# Altium footprint library fszhang.PcbLib: 279 footprints (part 7 of 18)
Each footprint in its own frame and in the unit in brackets; x right, y up, seen from the top. Pads: shape width x height; smd on the part's side, far side on the other; paste and mask are expansions set on the pad; w line width, h text height; cw(c..) or ccw(c..) is an arc to the next point about the centre after c.
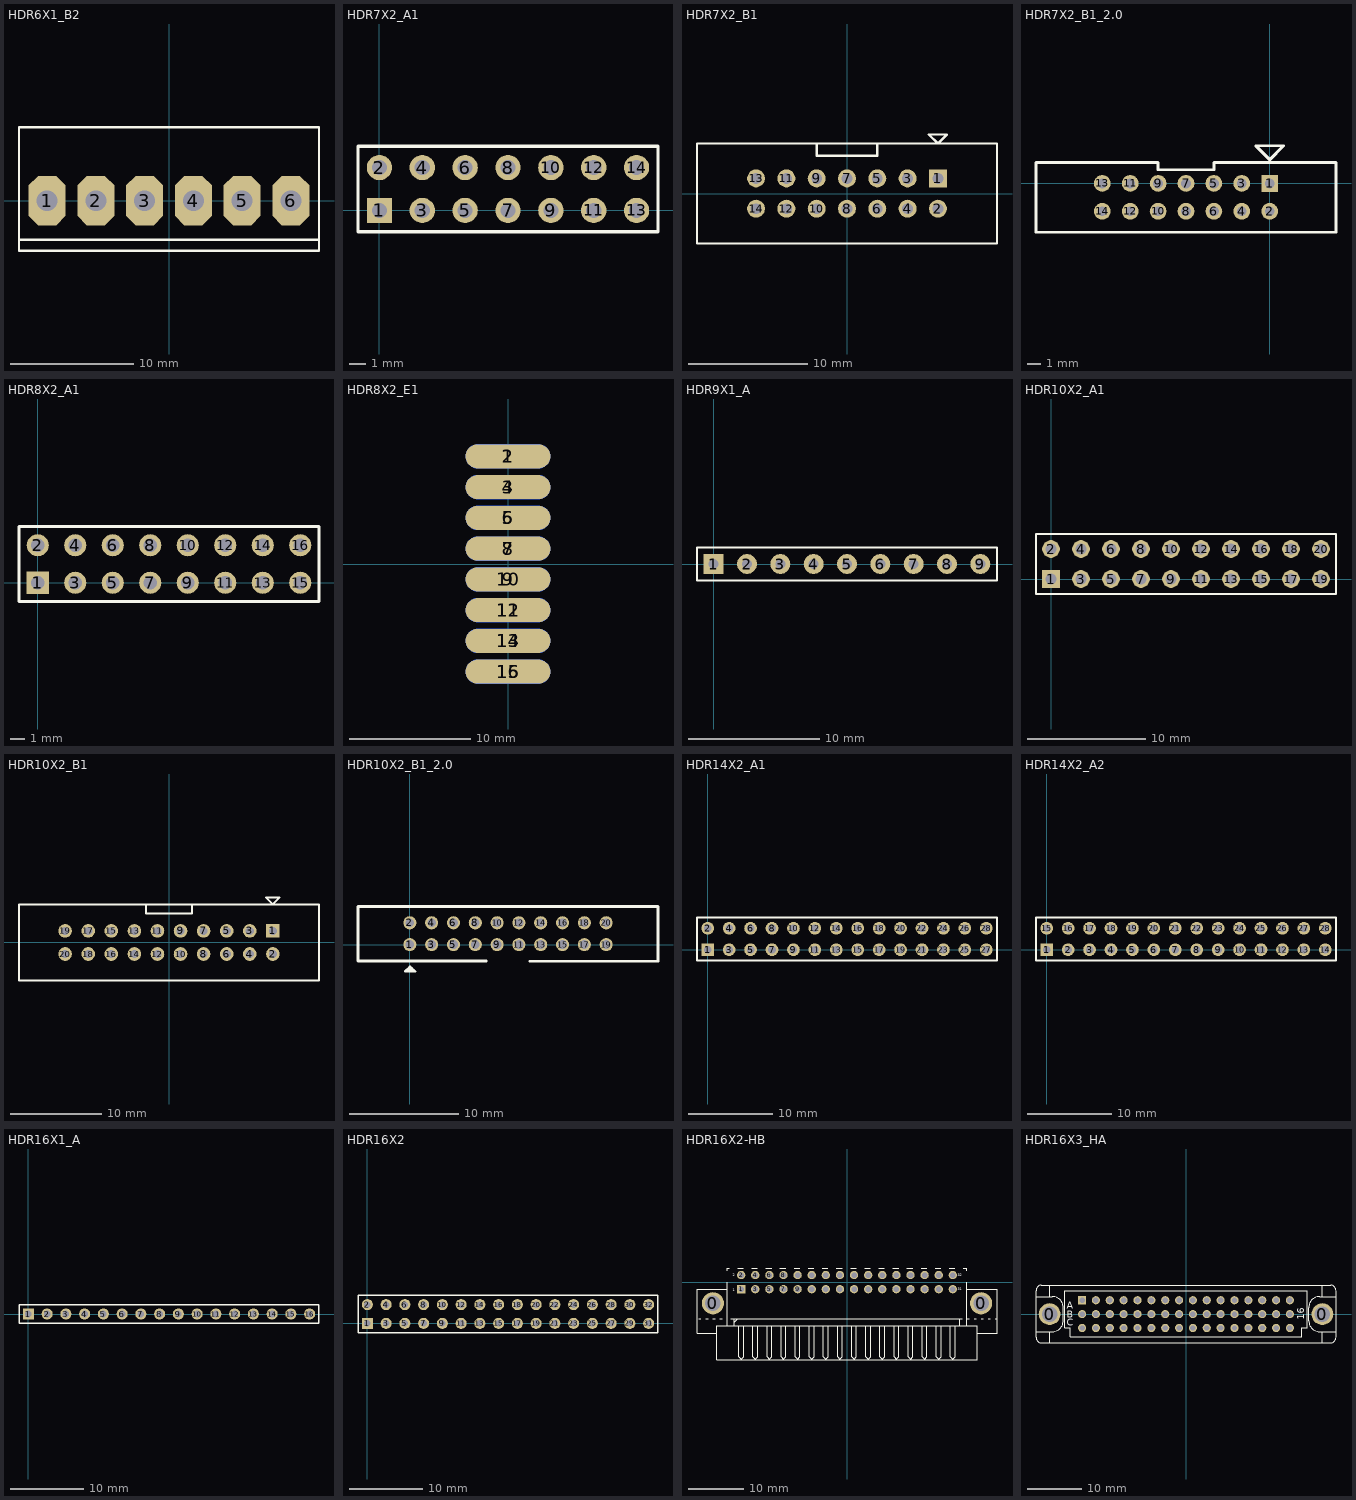
[diagram p6: the footprints below, top view; thin cyan lines are the x and y axes]

## HDR6X1_B2 [mm] "Connector; Header; 3 Position"
height 1.5
pads (6):
  oct 3x4 hole 1.7: 1(-9.906,0) 2(-5.944,0) 3(-1.981,0) 4(1.981,0) 5(5.944,0) 6(9.906,0)
Top Overlay:
  lines w0.2: -12.192,-3.175 12.192,-3.175 ; -2.54,-4.064 2.54,-4.064 ; -12.192,-4.064 12.192,-4.064 12.192,5.969 -12.192,5.969 -12.192,-4.064

## HDR7X2_A1 [mm] "Connector; Header; 7x2 Position"
height 1.75
pads (14):
  rect 1.5x1.5 hole 0.9: 1(0,0)
  round 1.5 hole 0.9: 2(0,2.54) 3(2.54,0) 4(2.54,2.54) 5(5.08,0) 6(5.08,2.54) 7(7.62,0) 8(7.62,2.54) 9(10.16,0) 10(10.16,2.54) 11(12.7,0) 12(12.7,2.54) 13(15.24,0) 14(15.24,2.54)
Top Overlay:
  lines w0.2: -1.27,-1.27 16.51,-1.27 16.51,3.81 -1.27,3.81 -1.27,-1.27

## HDR7X2_B1 [mm] "Connector"
height 2.65
pads (14):
  rect 1.5x1.5 hole 0.9: 1(7.62,1.27)
  round 1.5 hole 0.9: 2(7.62,-1.27) 3(5.08,1.27) 4(5.08,-1.27) 5(2.54,1.27) 6(2.54,-1.27) 7(0,1.27) 8(0,-1.27) 9(-2.54,1.27) 10(-2.54,-1.27) 11(-5.08,1.27) 12(-5.08,-1.27) 13(-7.62,1.27) 14(-7.62,-1.27)
Top Overlay:
  lines w0.2: -2.54,4.191 -2.54,3.175 2.54,3.175 2.54,4.191 ; -12.573,-4.191 -12.573,4.191 12.573,4.191 12.573,-4.191 -12.573,-4.191 ; 6.858,4.953 8.255,4.953 8.382,4.953 7.62,4.191 6.858,4.953

## HDR7X2_B1_2.0 [mm]
pads (14):
  rect 1.2x1.2 hole 0.7: 1(0,0)
  round 1.2 hole 0.7: 2(0,-2) 3(-2,0) 4(-2,-2) 5(-4,0) 6(-4,-2) 7(-6,0) 8(-6,-2) 9(-8,0) 10(-8,-2) 11(-10,0) 12(-10,-2) 13(-12,0) 14(-12,-2)
Top Overlay:
  lines w0.2: -16.75,-3.5 -16.75,1.5 -8,1.5 -8,0.975 -4,0.975 -4,1.5 4.75,1.5 4.75,-3.5 -16.75,-3.5 ; -1,2.7 0,1.7 1,2.7 -1,2.7

## HDR8X2_A1 [mm] "Connector; Header; 8x2 Position"
pads (16):
  rect 1.5x1.5 hole 0.9: 1(0,0)
  round 1.5 hole 0.9: 2(0,2.54) 3(2.54,0) 4(2.54,2.54) 5(5.08,0) 6(5.08,2.54) 7(7.62,0) 8(7.62,2.54) 9(10.16,0) 10(10.16,2.54) 11(12.7,0) 12(12.7,2.54) 13(15.24,0) 14(15.24,2.54) 15(17.78,0) 16(17.78,2.54)
Top Overlay:
  lines w0.2: -1.27,-1.27 19.05,-1.27 19.05,3.81 -1.27,3.81 -1.27,-1.27

## HDR8X2_E1 [mm]
pads (16):
  oval 7x2 smd: 1(0,8.89) 3(0,6.35) 5(0,3.81) 7(0,1.27) 9(0,-1.27) 11(0,-3.81) 13(0,-6.35) 15(0,-8.89)
  oval 7x2 smd far side: 2(0,8.89) 4(0,6.35) 6(0,3.81) 8(0,1.27) 10(0,-1.27) 12(0,-3.81) 14(0,-6.35) 16(0,-8.89)

## HDR9X1_A [mil] "2.54mm"
height 196.85
pads (9):
  rect 60x60 hole 30: 1(0,0)
  round 60 hole 30: 2(100,0) 3(200,0) 4(300,0) 5(400,0) 6(500,0) 7(600,0) 8(700,0) 9(800,0)
Top Overlay:
  lines w5.91: -50,-50 850,-50 850,50 -50,50 -50,-50

## HDR10X2_A1 [mm] "Connector; Header; 10x2 Position"
height 1.75
pads (20):
  rect 1.5x1.5 hole 0.9: 1(0,0)
  round 1.5 hole 0.9: 2(0,2.54) 3(2.54,0) 4(2.54,2.54) 5(5.08,0) 6(5.08,2.54) 7(7.62,0) 8(7.62,2.54) 9(10.16,0) 10(10.16,2.54) 11(12.7,0) 12(12.7,2.54) 13(15.24,0) 14(15.24,2.54) 15(17.78,0) 16(17.78,2.54) 17(20.32,0) 18(20.32,2.54) 19(22.86,0) 20(22.86,2.54)
Top Overlay:
  lines w0.2: -1.27,-1.27 -1.27,3.81 0.635,3.81 24.13,3.81 24.13,-1.27 0.635,-1.27 -1.27,-1.27

## HDR10X2_B1 [mm]
height 7
pads (20):
  rect 1.5x1.5 hole 0.9: 1(11.43,1.27)
  round 1.5 hole 0.9: 2(11.43,-1.27) 3(8.89,1.27) 4(8.89,-1.27) 5(6.35,1.27) 6(6.35,-1.27) 7(3.81,1.27) 8(3.81,-1.27) 9(1.27,1.27) 10(1.27,-1.27) 11(-1.27,1.27) 12(-1.27,-1.27) 13(-3.81,1.27) 14(-3.81,-1.27) 15(-6.35,1.27) 16(-6.35,-1.27) 17(-8.89,1.27) 18(-8.89,-1.27) 19(-11.43,1.27) 20(-11.43,-1.27)
Top Overlay:
  lines w0.2: -2.54,4.191 -2.54,3.175 2.54,3.175 2.54,4.191 ; -16.51,-4.191 -16.51,4.191 16.51,4.191 16.51,-4.191 -16.51,-4.191 ; 10.668,4.953 11.43,4.191 12.192,4.953 10.668,4.953

## HDR10X2_B1_2.0 [mm]
pads (20):
  round 1.2 hole 0.8: 1(-0.003,-0.008) 2(-0.003,1.992) 3(1.997,-0.008) 4(1.997,1.992) 5(3.997,-0.008) 6(3.997,1.992) 7(5.997,-0.008) 8(5.997,1.992) 9(7.997,-0.008) 10(7.997,1.992) 11(9.997,-0.008) 12(9.997,1.992) 13(11.997,-0.008) 14(11.997,1.992) 15(13.997,-0.008) 16(13.997,1.992) 17(15.997,-0.008) 18(15.997,1.992) 19(17.997,-0.008) 20(17.997,1.992)
Top Overlay:
  lines w0.2: 0.308,-2.294 -0.238,-2.294 -0.252,-2.281 0.103,-2.281 0.199,-2.185 0.199,-2.256 -0.028,-2.483 -0.028,-2.058 -0.003,-2.033 ; -0.003,-2.033 0.047,-2.033 0.497,-2.483 0.297,-2.483 -0.453,-2.483 -0.003,-2.033
  lines w0.254: 6.997,-1.508 -4.753,-1.508 -4.753,3.492 22.747,3.492 22.747,-1.508 ; 10.997,-1.533 22.747,-1.533

## HDR14X2_A1 [mm]
height 7
pads (28):
  rect 1.5x1.5 hole 0.9: 1(0,0)
  round 1.5 hole 0.9: 2(0,2.54) 3(2.54,0) 4(2.54,2.54) 5(5.08,0) 6(5.08,2.54) 7(7.62,0) 8(7.62,2.54) 9(10.16,0) 10(10.16,2.54) 11(12.7,0) 12(12.7,2.54) 13(15.24,0) 14(15.24,2.54) 15(17.78,0) 16(17.78,2.54) 17(20.32,0) 18(20.32,2.54) 19(22.86,0) 20(22.86,2.54) 21(25.4,0) 22(25.4,2.54) 23(27.94,0) 24(27.94,2.54) 25(30.48,0) 26(30.48,2.54) 27(33.02,0) 28(33.02,2.54)
Top Overlay:
  lines w0.2: -1.27,-1.27 34.29,-1.27 34.29,3.81 -1.27,3.81 -1.27,-1.27

## HDR14X2_A2 [mm]
height 7
pads (28):
  rect 1.5x1.5 hole 0.9: 1(0,0)
  round 1.5 hole 0.9: 2(2.54,0) 3(5.08,0) 4(7.62,0) 5(10.16,0) 6(12.7,0) 7(15.24,0) 8(17.78,0) 9(20.32,0) 10(22.86,0) 11(25.4,0) 12(27.94,0) 13(30.48,0) 14(33.02,0) 15(0,2.54) 16(2.54,2.54) 17(5.08,2.54) 18(7.62,2.54) 19(10.16,2.54) 20(12.7,2.54) 21(15.24,2.54) 22(17.78,2.54) 23(20.32,2.54) 24(22.86,2.54) 25(25.4,2.54) 26(27.94,2.54) 27(30.48,2.54) 28(33.02,2.54)
Top Overlay:
  lines w0.2: -1.27,-1.27 34.29,-1.27 34.29,3.81 -1.27,3.81 -1.27,-1.27

## HDR16X1_A [mm] "Connector; Header; 16 Position"
height 5.8
pads (16):
  rect 1.5x1.5 hole 0.9: 1(0,0)
  round 1.5 hole 0.9: 2(2.54,0) 3(5.08,0) 4(7.62,0) 5(10.16,0) 6(12.7,0) 7(15.24,0) 8(17.78,0) 9(20.32,0) 10(22.86,0) 11(25.4,0) 12(27.94,0) 13(30.48,0) 14(33.02,0) 15(35.56,0) 16(38.1,0)
Top Overlay:
  lines w0.2: -1.27,-1.27 39.37,-1.27 39.37,1.27 0.635,1.27 -1.27,1.27 -1.27,-1.27

## HDR16X2 [mm] "Connector; Header; 16x2 Position"
height 1.2
pads (32):
  rect 1.5x1.5 hole 0.9: 1(0,0)
  round 1.5 hole 0.9: 2(0,2.54) 3(2.54,0) 4(2.54,2.54) 5(5.08,0) 6(5.08,2.54) 7(7.62,0) 8(7.62,2.54) 9(10.16,0) 10(10.16,2.54) 11(12.7,0) 12(12.7,2.54) 13(15.24,0) 14(15.24,2.54) 15(17.78,0) 16(17.78,2.54) 17(20.32,0) 18(20.32,2.54) 19(22.86,0) 20(22.86,2.54) 21(25.4,0) 22(25.4,2.54) 23(27.94,0) 24(27.94,2.54) 25(30.48,0) 26(30.48,2.54) 27(33.02,0) 28(33.02,2.54) 29(35.56,0) 30(35.56,2.54) 31(38.1,0) 32(38.1,2.54)
Top Overlay:
  lines w0.2: -1.27,-1.27 -1.27,3.81 39.37,3.81 39.37,-1.27 -1.27,-1.27

## HDR16X2-HB [mm]
height 8.6
pads (34):
  round 4 hole 2.8: 0(-24.13,-3.81) 0(24.13,-3.81)
  rect 1.5x1.5 hole 1: 1(-19.05,-1.27)
  round 1.5 hole 1: 2(-19.05,1.27) 3(-16.51,-1.27) 4(-16.51,1.27) 5(-13.97,-1.27) 6(-13.97,1.27) 7(-11.43,-1.27) 8(-11.43,1.27) 9(-8.89,-1.27) 10(-8.89,1.27) 11(-6.35,-1.27) 12(-6.35,1.27) 13(-3.81,-1.27) 14(-3.81,1.27) 15(-1.27,-1.27) 16(-1.27,1.27) 17(1.27,-1.27) 18(1.27,1.27) 19(3.81,-1.27) 20(3.81,1.27) 21(6.35,-1.27) 22(6.35,1.27) 23(8.89,-1.27) 24(8.89,1.27) 25(11.43,-1.27) 26(11.43,1.27) 27(13.97,-1.27) 28(13.97,1.27) 29(16.51,-1.27) 30(16.51,1.27) 31(19.05,-1.27) 32(19.05,1.27)
Top Overlay:
  lines w0.2: -27,-6.57 -26.924,-6.57 ; -26.67,-6.57 -26.289,-6.57 ; -25.4,-6.57 -25.019,-6.57 ; -24.13,-6.57 -23.749,-6.57 ; -23.45,-7.874 -23.45,-9.21 ; -23.45,-7.84 -20.32,-7.84 ; -22.86,-6.57 -22.479,-6.57 ; -21.59,-7.84 -21.59,0 ; -21.59,-1.27 -27,-1.27 -27,-9.21 -23.45,-9.21 ; -21.59,2.032 -21.59,2.54 -21.209,2.54 ; -20.955,-6.57 20.701,-6.57 ; -20.32,-7.205 -19.685,-6.57 ; -19.685,2.54 -18.669,2.54 ; -19.473,-7.84 -19.473,-13.427 -19.05,-13.85 -18.627,-13.427 -18.627,-7.84 ; -17.145,2.54 -16.129,2.54 ; -16.933,-7.84 -16.933,-13.427 -16.51,-13.85 -16.087,-13.427 -16.087,-7.84 ; -14.605,2.54 -13.589,2.54 ; -14.393,-7.84 -14.393,-13.427 -13.97,-13.85 -13.547,-13.427 -13.547,-7.84 ; -12.065,2.54 -11.049,2.54 ; -11.853,-7.84 -11.853,-13.427 -11.43,-13.85 -11.007,-13.427 -11.007,-7.84 ; -9.525,2.54 -8.509,2.54 ; -9.313,-7.84 -9.313,-13.427 -8.89,-13.85 -8.467,-13.427 -8.467,-7.84 ; -6.985,2.54 -5.969,2.54 ; -6.773,-7.84 -6.773,-13.427 -6.35,-13.85 -5.927,-13.427 -5.927,-7.84 ; -4.445,2.54 -3.429,2.54 ; -4.233,-7.84 -4.233,-13.427 -3.81,-13.85 -3.387,-13.427 -3.387,-7.84 ; -1.905,2.54 -0.889,2.54 ; -1.693,-7.84 -1.693,-13.427 -1.27,-13.85 -0.847,-13.427 -0.847,-7.84 ; 0.635,2.54 1.651,2.54 ; 0.847,-7.84 0.847,-13.427 1.27,-13.85 1.693,-13.427 1.693,-7.84 ; 3.175,2.54 4.191,2.54 ; 3.387,-7.84 3.387,-13.427 3.81,-13.85 4.233,-13.427 4.233,-7.84 ; 5.715,2.54 6.731,2.54 ; 5.927,-7.84 5.927,-13.427 6.35,-13.85 6.773,-13.427 6.773,-7.84 ; 8.255,2.54 9.271,2.54 ; 8.467,-7.84 8.467,-13.427 8.89,-13.85 9.313,-13.427 9.313,-7.84 ; 10.795,2.54 11.811,2.54 ; 11.007,-7.84 11.007,-13.427 11.43,-13.85 11.853,-13.427 11.853,-7.84 ; 13.335,2.54 14.351,2.54 ; 13.547,-7.84 13.547,-13.427 13.97,-13.85 14.393,-13.427 14.393,-7.84 ; 15.875,2.54 16.891,2.54 ; 16.087,-7.84 16.087,-13.427 16.51,-13.85 16.933,-13.427 16.933,-7.84 ; 18.415,2.54 19.431,2.54 ; 18.627,-7.84 18.627,-13.427 19.05,-13.85 19.473,-13.427 19.473,-7.84 ; 20.955,2.54 21.59,2.54 21.59,2.032 ; 21.59,-7.84 21.59,0 ; 21.59,-6.57 21.971,-6.57 ; 21.59,-1.27 27,-1.27 27,-9.21 23.45,-9.21 ; 22.86,-6.57 23.241,-6.57 ; 24.13,-6.57 24.511,-6.57 ; 25.4,-6.57 25.781,-6.57 ; 26.67,-6.57 27,-6.57 ; -23.45,-9.21 -23.45,-14.01 23.45,-14.01 23.45,-9.565 23.45,-8.803 23.45,-7.84 20.32,-7.84 ; -20.32,-7.84 -20.32,-6.57 20.32,-6.57 20.32,-7.84 ; -20.32,-7.84 20.32,-7.84
  text "2" at -20.574,0.889 h0.8
  text "1" at -20.574,-1.778 h0.8
  text "31" at 19.939,-1.651 h0.8
  text "32" at 19.939,0.889 h0.8

## HDR16X3_HA [mm]
height 10
pads (50):
  round 4 hole 2.8: 0(-25,0) 0(25,0)
  rect 1.5x1.5 hole 1: A1(-19.05,2.54)
  round 1.5 hole 1: A2(-16.51,2.54) A3(-13.97,2.54) A4(-11.43,2.54) A5(-8.89,2.54) A6(-6.35,2.54) A7(-3.81,2.54) A8(-1.27,2.54) A9(1.27,2.54) A10(3.81,2.54) A11(6.35,2.54) A12(8.89,2.54) A13(11.43,2.54) A14(13.97,2.54) A15(16.51,2.54) A16(19.05,2.54) B1(-19.05,0) B2(-16.51,0) B3(-13.97,0) B4(-11.43,0) B5(-8.89,0) B6(-6.35,0) B7(-3.81,0) B8(-1.27,0) B9(1.27,0) B10(3.81,0) B11(6.35,0) B12(8.89,0) B13(11.43,0) B14(13.97,0) B15(16.51,0) B16(19.05,0) C1(-19.05,-2.54) C2(-16.51,-2.54) C3(-13.97,-2.54) C4(-11.43,-2.54) C5(-8.89,-2.54) C6(-6.35,-2.54) C7(-3.81,-2.54) C8(-1.27,-2.54) C9(1.27,-2.54) C10(3.81,-2.54) C11(6.35,-2.54) C12(8.89,-2.54) C13(11.43,-2.54) C14(13.97,-2.54) C15(16.51,-2.54) C16(19.05,-2.54)
Top Overlay:
  lines w0.2: -27.5,-3.2 -24.5,-3.2 ccw(c-24.5,-1.2) -22.5,-1.2 -22.5,1.2 ccw(c-24.5,1.2) -24.5,3.2 -27.5,3.2 ; -25,-5.25 -25,-3.2 ; -25,3.2 -25,5.3 ; 25,-5.25 25,-3.2 ; 25,3.2 25,5.3 ; 26.497,-5.25 22.5,-5.25 -22.5,-5.25 -26.5,-5.25 cw(c-26.5,-4.25) -27.5,-4.25 -27.5,3.2 ; 26.5,-5.25 ccw(c26.5,-4.25) 27.5,-4.25 27.5,3.2 ; 27.5,-3.2 24.5,-3.2 cw(c24.5,-1.2) 22.5,-1.2 22.5,1.2 cw(c24.5,1.2) 24.5,3.2 27.5,3.2 ; -27.5,3.2 -27.5,4.3 cw(c-26.5,4.3) -26.5,5.3 26.5,5.3 cw(c26.5,4.3) 27.5,4.3 27.5,3.2 ; -22.2,-2.54 -21.225,-2.54 -21.225,-4.178 21.225,-4.178 21.225,-2.54 22.2,-2.54 22.2,4.25 -22.2,4.25 -22.2,-2.54
  text "16" at 21.717,-1.016 h1.27
  text "C" at -21.844,-2.159 h1.27
  text "A" at -21.844,1.016 h1.27
  text "B" at -21.844,-0.635 h1.27